# Altium integrated library Xilinx XC1700.IntLib: 30 symbols (part 1 of 2)
Pins are listed as number, name and electrical type; pins without a type are passive.

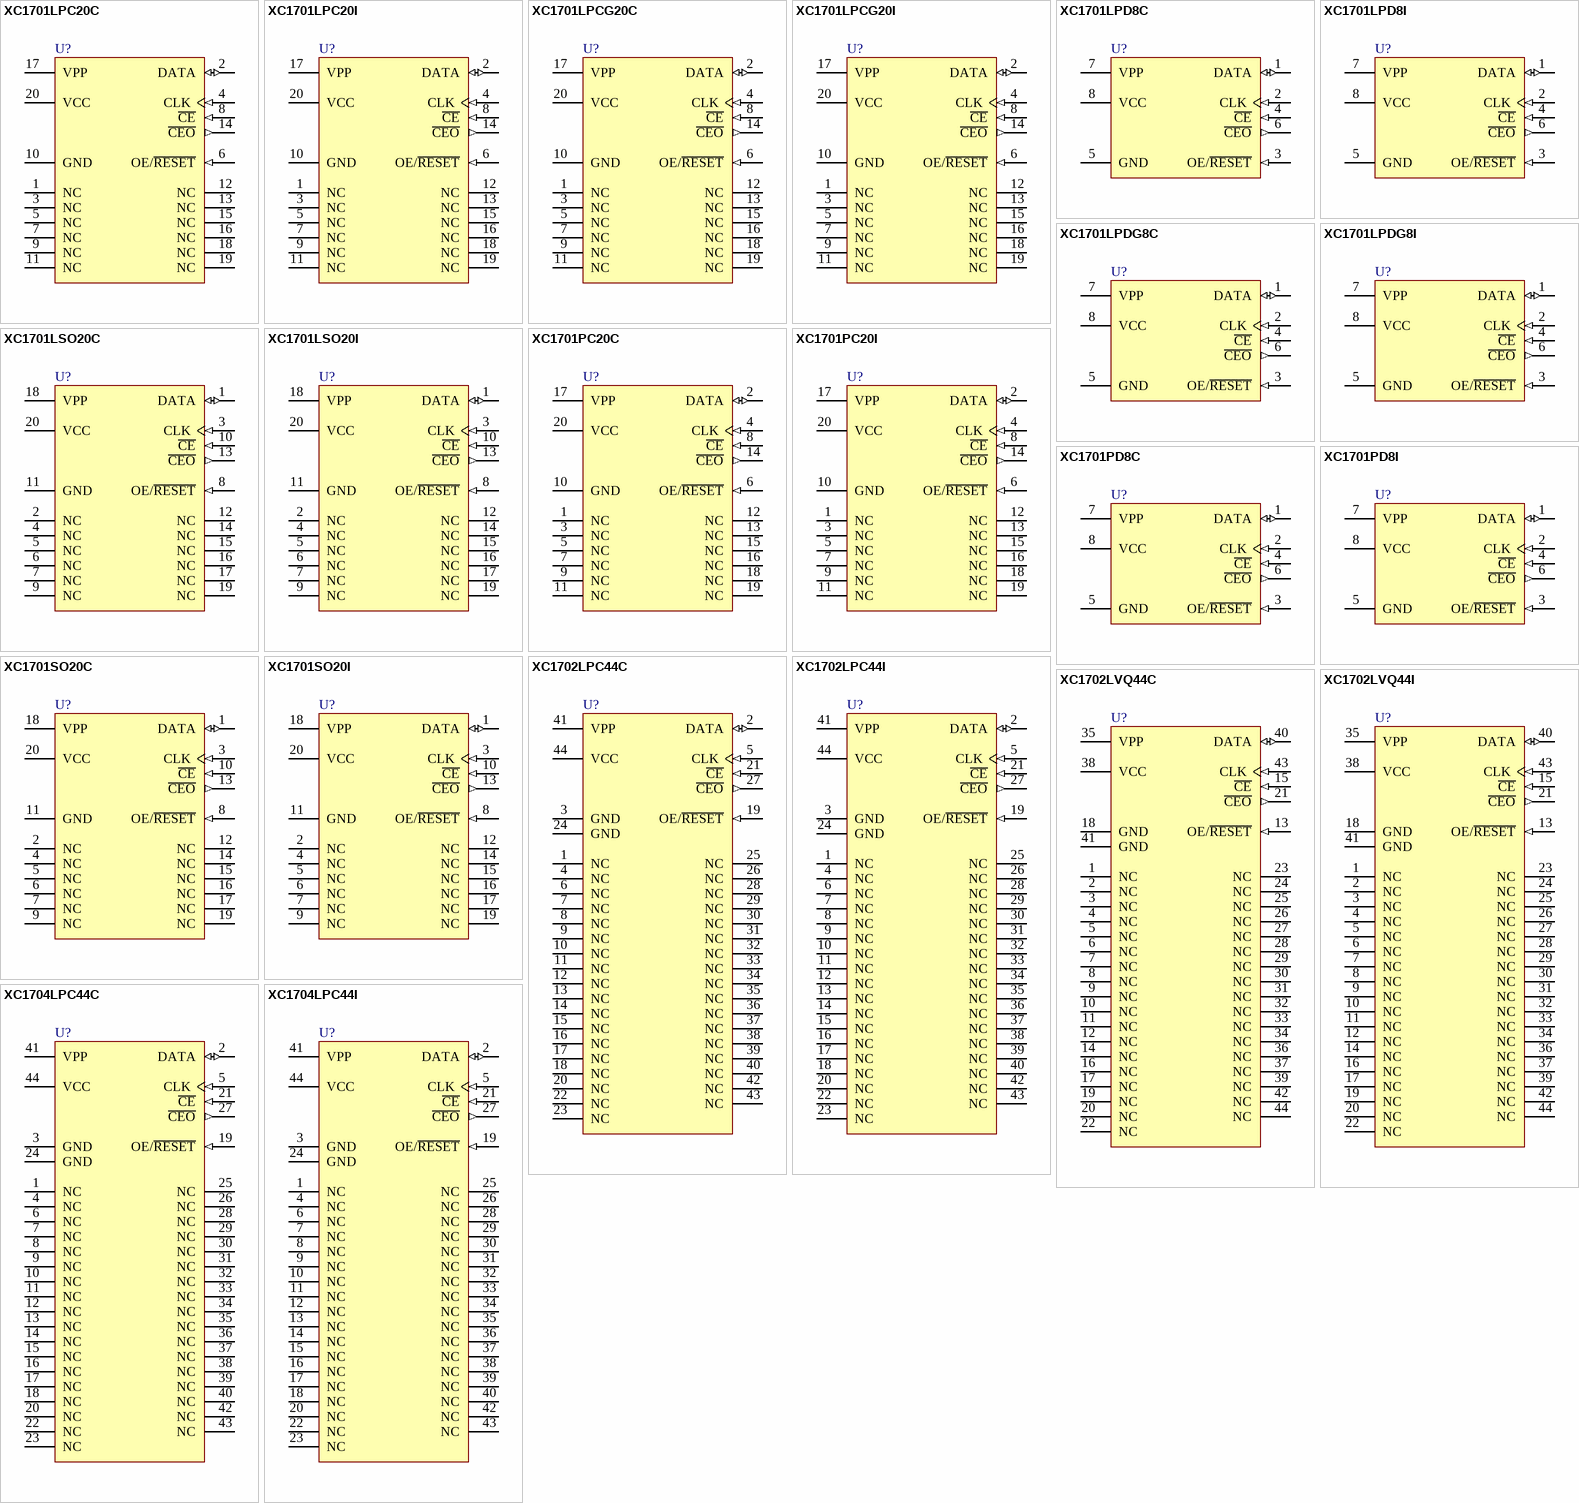
[diagram p0: symbols XC1701LPC20C to XC1704LPC44I]

## XC1701LPC20C
designator U?
XC1700L Series, One-Time Programmable Configuration 3.3V PROM, 20-Pin PLCC, 1-Megabit Density, Commercial Grade; Published: 17-Dec-2003; LatestRevisionDate: 16-Nov-2009; LatestRevisionNote: Updated to datasheet version 3.5, Jun-2008.; DatasheetVersion: ver3.5, Jun-2008; PackageVersion: ver1.2, Jun-2004; PackageReference: PC20; Publisher: Altium Limited; PackageDescription: 20-Pin Plastic Leaded Chip Carrier (PC20); Code_JEDEC: MS-047; Code_IPC: PLCC-20; ComponentLink1Description: XC1700E/EL/L Series Datasheet; ComponentLink1URL: http://www.xilinx.com/support/documentation/data_sheets/ds027.pdf; ComponentLink2Description: PC20 Package Drawing; ComponentLink2URL: http://www.xilinx.com/support/documentation/package_specs/pc20.pdf; ComponentLink3Description: Configuration PROM Documents; ComponentLink3URL: http://www.xilinx.com/support/documentation/configuration_proms.htm; ComponentLink4Description: Xilinx.com Home; ComponentLink4URL: http://www.xilinx.com
footprint PC20_N (Leaded Chip Carrier, 20-Leads, Body 9x9mm, Pitch 1.27mm, IPC Medium Density)
footprint PC20_L (Leaded Chip Carrier, 20-Leads, Body 9x9mm, Pitch 1.27mm, IPC High Density)
footprint PC20_M (Leaded Chip Carrier, 20-Leads, Body 9x9mm, Pitch 1.27mm, IPC Low Density)
pins: 1 NC "No Connection.", 2 DATA (io) "Data Output.", 3 NC "No Connection.", 4 CLK (in) "Clock input for internal address counter.", 5 NC "No Connection.", 6 OE/~{RESET} (in) "Output Enable/Reset.", 7 NC "No Connection.", 8 ~{CE} (in) "Chip Enable Input.", 9 NC "No Connection.", 10 GND (power) "Ground.", 11 NC "No Connection.", 12 NC "No Connection.", 13 NC "No Connection.", 14 ~{CEO} (out) "Chip Enable Output, connects to the CE input of the next PROM in the chain.", 15 NC "No Connection.", 16 NC "No Connection.", 17 VPP (power) "Programming Voltage.  Do not leave Vpp floating!", 18 NC "No Connection.", 19 NC "No Connection.", 20 VCC (power) "Positive Supply."

## XC1701LPC20I
designator U?
XC1700L Series, One-Time Programmable Configuration 3.3V PROM, 20-Pin PLCC, 1-Megabit Density, Industrial Grade; Published: 17-Dec-2003; LatestRevisionDate: 16-Nov-2009; LatestRevisionNote: Updated to datasheet version 3.5, Jun-2008.; DatasheetVersion: ver3.5, Jun-2008; PackageVersion: ver1.2, Jun-2004; PackageReference: PC20; Publisher: Altium Limited; PackageDescription: 20-Pin Plastic Leaded Chip Carrier (PC20); Code_JEDEC: MS-047; Code_IPC: PLCC-20; ComponentLink1Description: XC1700E/EL/L Series Datasheet; ComponentLink1URL: http://www.xilinx.com/support/documentation/data_sheets/ds027.pdf; ComponentLink2Description: PC20 Package Drawing; ComponentLink2URL: http://www.xilinx.com/support/documentation/package_specs/pc20.pdf; ComponentLink3Description: Configuration PROM Documents; ComponentLink3URL: http://www.xilinx.com/support/documentation/configuration_proms.htm; ComponentLink4Description: Xilinx.com Home; ComponentLink4URL: http://www.xilinx.com
footprint PC20_N (Leaded Chip Carrier, 20-Leads, Body 9x9mm, Pitch 1.27mm, IPC Medium Density)
footprint PC20_L (Leaded Chip Carrier, 20-Leads, Body 9x9mm, Pitch 1.27mm, IPC High Density)
footprint PC20_M (Leaded Chip Carrier, 20-Leads, Body 9x9mm, Pitch 1.27mm, IPC Low Density)
pins: 1 NC "No Connection.", 2 DATA (io) "Data Output.", 3 NC "No Connection.", 4 CLK (in) "Clock input for internal address counter.", 5 NC "No Connection.", 6 OE/~{RESET} (in) "Output Enable/Reset.", 7 NC "No Connection.", 8 ~{CE} (in) "Chip Enable Input.", 9 NC "No Connection.", 10 GND (power) "Ground.", 11 NC "No Connection.", 12 NC "No Connection.", 13 NC "No Connection.", 14 ~{CEO} (out) "Chip Enable Output, connects to the CE input of the next PROM in the chain.", 15 NC "No Connection.", 16 NC "No Connection.", 17 VPP (power) "Programming Voltage.  Do not leave Vpp floating!", 18 NC "No Connection.", 19 NC "No Connection.", 20 VCC (power) "Positive Supply."

## XC1701LPCG20C
designator U?
XC1700L Series, One-Time Programmable Configuration 3.3V PROM, 20-Pin PLCC, 1-Megabit Density, Commercial Grade; Published: 17-Nov-2009; DatasheetVersion: ver3.5, Jun-2008; PackageVersion: ver1.2, Jun-2004; PackageReference: PCG20; Publisher: Altium Limited; PackageDescription: 20-Pin Plastic Leaded Chip Carrier (PCG20) - Pb-Free; Supplier 1: Digi-Key; Supplier Part Number 1: XC1701LPCG20C-ND; Code_JEDEC: MS-047; Code_IPC: PLCC-20; ComponentLink1Description: XC1700E/EL/L Series Datasheet; ComponentLink1URL: http://www.xilinx.com/support/documentation/data_sheets/ds027.pdf; ComponentLink2Description: PCG20 Package Drawing; ComponentLink2URL: http://www.xilinx.com/support/documentation/package_specs/pc20.pdf; ComponentLink3Description: Configuration PROM Documents; ComponentLink3URL: http://www.xilinx.com/support/documentation/configuration_proms.htm; ComponentLink4Description: Xilinx.com Home; ComponentLink4URL: http://www.xilinx.com
footprint PCG20_N (Leaded Chip Carrier, 20-Leads, Body 9x9mm, Pitch 1.27mm, IPC Medium Density)
footprint PCG20_L (Leaded Chip Carrier, 20-Leads, Body 9x9mm, Pitch 1.27mm, IPC High Density)
footprint PCG20_M (Leaded Chip Carrier, 20-Leads, Body 9x9mm, Pitch 1.27mm, IPC Low Density)
pins: 1 NC "No Connection.", 2 DATA (io) "Data Output.", 3 NC "No Connection.", 4 CLK (in) "Clock input for internal address counter.", 5 NC "No Connection.", 6 OE/~{RESET} (in) "Output Enable/Reset.", 7 NC "No Connection.", 8 ~{CE} (in) "Chip Enable Input.", 9 NC "No Connection.", 10 GND (power) "Ground.", 11 NC "No Connection.", 12 NC "No Connection.", 13 NC "No Connection.", 14 ~{CEO} (out) "Chip Enable Output, connects to the CE input of the next PROM in the chain.", 15 NC "No Connection.", 16 NC "No Connection.", 17 VPP (power) "Programming Voltage.  Do not leave Vpp floating!", 18 NC "No Connection.", 19 NC "No Connection.", 20 VCC (power) "Positive Supply."

## XC1701LPCG20I
designator U?
XC1700L Series, One-Time Programmable Configuration 3.3V PROM, 20-Pin PLCC, 1-Megabit Density, Industrial Grade; Published: 17-Nov-2009; DatasheetVersion: ver3.5, Jun-2008; PackageVersion: ver1.2, Jun-2004; PackageReference: PCG20; Publisher: Altium Limited; PackageDescription: 20-Pin Plastic Leaded Chip Carrier (PCG20) - Pb-Free; Supplier 1: Digi-Key; Supplier Part Number 1: XC1701LPCG20I-ND; Code_JEDEC: MS-047; Code_IPC: PLCC-20; ComponentLink1Description: XC1700E/EL/L Series Datasheet; ComponentLink1URL: http://www.xilinx.com/support/documentation/data_sheets/ds027.pdf; ComponentLink2Description: PCG20 Package Drawing; ComponentLink2URL: http://www.xilinx.com/support/documentation/package_specs/pc20.pdf; ComponentLink3Description: Configuration PROM Documents; ComponentLink3URL: http://www.xilinx.com/support/documentation/configuration_proms.htm; ComponentLink4Description: Xilinx.com Home; ComponentLink4URL: http://www.xilinx.com
footprint PCG20_N (Leaded Chip Carrier, 20-Leads, Body 9x9mm, Pitch 1.27mm, IPC Medium Density)
footprint PCG20_L (Leaded Chip Carrier, 20-Leads, Body 9x9mm, Pitch 1.27mm, IPC High Density)
footprint PCG20_M (Leaded Chip Carrier, 20-Leads, Body 9x9mm, Pitch 1.27mm, IPC Low Density)
pins: 1 NC "No Connection.", 2 DATA (io) "Data Output.", 3 NC "No Connection.", 4 CLK (in) "Clock input for internal address counter.", 5 NC "No Connection.", 6 OE/~{RESET} (in) "Output Enable/Reset.", 7 NC "No Connection.", 8 ~{CE} (in) "Chip Enable Input.", 9 NC "No Connection.", 10 GND (power) "Ground.", 11 NC "No Connection.", 12 NC "No Connection.", 13 NC "No Connection.", 14 ~{CEO} (out) "Chip Enable Output, connects to the CE input of the next PROM in the chain.", 15 NC "No Connection.", 16 NC "No Connection.", 17 VPP (power) "Programming Voltage.  Do not leave Vpp floating!", 18 NC "No Connection.", 19 NC "No Connection.", 20 VCC (power) "Positive Supply."

## XC1701LPD8C
designator U?
XC1700L Series, One-Time Programmable Configuration 3.3V PROM, 8-Pin PDIP, 1-Megabit Density, Commercial Grade; Published: 17-Dec-2003; DatasheetVersion: ver3.5, Jun-2008; PackageVersion: rev1.1, Apr-2001; PackageReference: PD8; Publisher: Altium Limited; PackageDescription: 8-Pin Plastic DIP (PD8); Supplier 1: Digi-Key; Supplier Part Number 1: XC1701LPD8C-ND; Code_JEDEC: MS-001-BA; ComponentLink1Description: XC1700E/EL/L Series Datasheet; ComponentLink1URL: http://www.xilinx.com/support/documentation/data_sheets/ds027.pdf; ComponentLink2Description: PD8 Package Drawing; ComponentLink2URL: http://www.xilinx.com/support/documentation/package_specs/pd08.pdf; ComponentLink3Description: Configuration PROM Documents; ComponentLink3URL: http://www.xilinx.com/support/documentation/configuration_proms.htm; ComponentLink4Description: Xilinx.com Home; ComponentLink4URL: http://www.xilinx.com
footprint PD8 (DIP, 8-Leads, Row Spacing 7.62mm, Pitch 2.54mm, Body 9.36x6.5mm)
pins: 1 DATA (io) "Data Output.", 2 CLK (in) "Clock input for internal address counter.", 3 OE/~{RESET} (in) "Output Enable/Reset.", 4 ~{CE} (in) "Chip Enable Input.", 5 GND (power) "Ground.", 6 ~{CEO} (out) "Chip Enable Output, connects to the CE input of the next PROM in the chain.", 7 VPP (power) "Programming Voltage.  Do not leave Vpp floating!", 8 VCC (power) "Positive Supply."

## XC1701LPD8I
designator U?
XC1700L Series, One-Time Programmable Configuration 3.3V PROM, 8-Pin PDIP, 1-Megabit Density, Industrial Grade; Published: 17-Dec-2003; DatasheetVersion: ver3.5, Jun-2008; PackageVersion: rev1.1, Apr-2001; PackageReference: PD8; Publisher: Altium Limited; PackageDescription: 8-Pin Plastic DIP (PD8); Code_JEDEC: MS-001-BA; ComponentLink1Description: XC1700E/EL/L Series Datasheet; ComponentLink1URL: http://www.xilinx.com/support/documentation/data_sheets/ds027.pdf; ComponentLink2Description: PD8 Package Drawing; ComponentLink2URL: http://www.xilinx.com/support/documentation/package_specs/pd08.pdf; ComponentLink3Description: Configuration PROM Documents; ComponentLink3URL: http://www.xilinx.com/support/documentation/configuration_proms.htm; ComponentLink4Description: Xilinx.com Home; ComponentLink4URL: http://www.xilinx.com
footprint PD8 (DIP, 8-Leads, Row Spacing 7.62mm, Pitch 2.54mm, Body 9.36x6.5mm)
pins: 1 DATA (io) "Data Output.", 2 CLK (in) "Clock input for internal address counter.", 3 OE/~{RESET} (in) "Output Enable/Reset.", 4 ~{CE} (in) "Chip Enable Input.", 5 GND (power) "Ground.", 6 ~{CEO} (out) "Chip Enable Output, connects to the CE input of the next PROM in the chain.", 7 VPP (power) "Programming Voltage.  Do not leave Vpp floating!", 8 VCC (power) "Positive Supply."

## XC1701LPDG8C
designator U?
XC1700L Series, One-Time Programmable Configuration 3.3V PROM, 8-Pin PDIP, 1-Megabit Density, Commercial Grade; Published: 17-Nov-2009; DatasheetVersion: ver3.5, Jun-2008; PackageVersion: rev1.1, Apr-2001; PackageReference: PDG8; Publisher: Altium Limited; PackageDescription: 8-Pin Plastic DIP (PDG8), Pb-Free; Supplier 1: Digi-Key; Supplier Part Number 1: XC1701LPDG8C-ND; Code_JEDEC: MS-001-BA; ComponentLink1Description: XC1700E/EL/L Series Datasheet; ComponentLink1URL: http://www.xilinx.com/support/documentation/data_sheets/ds027.pdf; ComponentLink2Description: PDG8 Package Drawing; ComponentLink2URL: http://www.xilinx.com/support/documentation/package_specs/pd08.pdf; ComponentLink3Description: Configuration PROM Documents; ComponentLink3URL: http://www.xilinx.com/support/documentation/configuration_proms.htm; ComponentLink4Description: Xilinx.com Home; ComponentLink4URL: http://www.xilinx.com
footprint PDG8 (DIP, 8-Leads, Row Spacing 7.62mm, Pitch 2.54mm, Body 9.36x6.5mm)
pins: 1 DATA (io) "Data Output.", 2 CLK (in) "Clock input for internal address counter.", 3 OE/~{RESET} (in) "Output Enable/Reset.", 4 ~{CE} (in) "Chip Enable Input.", 5 GND (power) "Ground.", 6 ~{CEO} (out) "Chip Enable Output, connects to the CE input of the next PROM in the chain.", 7 VPP (power) "Programming Voltage.  Do not leave Vpp floating!", 8 VCC (power) "Positive Supply."

## XC1701LPDG8I
designator U?
XC1700L Series, One-Time Programmable Configuration 3.3V PROM, 8-Pin PDIP, 1-Megabit Density, Industrial Grade; Published: 17-Nov-2009; DatasheetVersion: ver3.5, Jun-2008; PackageVersion: rev1.1, Apr-2001; PackageReference: PDG8; Publisher: Altium Limited; PackageDescription: 8-Pin Plastic DIP (PDG8), Pb-Free; Supplier 1: Digi-Key; Supplier Part Number 1: XC1701LPDG8I-ND; Code_JEDEC: MS-001-BA; ComponentLink1Description: XC1700E/EL/L Series Datasheet; ComponentLink1URL: http://www.xilinx.com/support/documentation/data_sheets/ds027.pdf; ComponentLink2Description: PDG8 Package Drawing; ComponentLink2URL: http://www.xilinx.com/support/documentation/package_specs/pd08.pdf; ComponentLink3Description: Configuration PROM Documents; ComponentLink3URL: http://www.xilinx.com/support/documentation/configuration_proms.htm; ComponentLink4Description: Xilinx.com Home; ComponentLink4URL: http://www.xilinx.com
footprint PDG8 (DIP, 8-Leads, Row Spacing 7.62mm, Pitch 2.54mm, Body 9.36x6.5mm)
pins: 1 DATA (io) "Data Output.", 2 CLK (in) "Clock input for internal address counter.", 3 OE/~{RESET} (in) "Output Enable/Reset.", 4 ~{CE} (in) "Chip Enable Input.", 5 GND (power) "Ground.", 6 ~{CEO} (out) "Chip Enable Output, connects to the CE input of the next PROM in the chain.", 7 VPP (power) "Programming Voltage.  Do not leave Vpp floating!", 8 VCC (power) "Positive Supply."

## XC1701LSO20C
designator U?
XC1700L Series, One-Time Programmable Configuration 3.3V PROM, 20-Pin SOIC, 1-Megabit Density, Commercial Grade; Published: 17-Dec-2003; LatestRevisionDate: 16-Nov-2009; LatestRevisionNote: Updated to datasheet version 3.5, Jun-2008.; DatasheetVersion: ver3.5, Jun-2008; PackageVersion: ver1.0, Jun-2000; PackageReference: SO20; Publisher: Altium Limited; PackageDescription: 20-Pin Small Outline Package (SO20); Code_JEDEC: MS-013-AC; ComponentLink1Description: XC1700E/EL/L Series Datasheet; ComponentLink1URL: http://www.xilinx.com/support/documentation/data_sheets/ds027.pdf; ComponentLink2Description: SO20 Package Drawing; ComponentLink2URL: http://www.xilinx.com/support/documentation/package_specs/so20.pdf; ComponentLink3Description: Configuration PROM Documents; ComponentLink3URL: http://www.xilinx.com/support/documentation/configuration_proms.htm; ComponentLink4Description: Xilinx.com Home; ComponentLink4URL: http://www.xilinx.com
footprint SO20_N (SOIC, 20-Leads, Body 12.8x7.5mm, Pitch 1.27mm, IPC Medium Density)
footprint SO20_L (SOIC, 20-Leads, Body 12.8x7.5mm, Pitch 1.27mm, IPC High Density)
footprint SO20_M (SOIC, 20-Leads, Body 12.8x7.5mm, Pitch 1.27mm, IPC Low Density)
pins: 1 DATA (io) "Data Output.", 2 NC "No Connection.", 3 CLK (in) "Clock input for internal address counter.", 4 NC "No Connection.", 5 NC "No Connection.", 6 NC "No Connection.", 7 NC "No Connection.", 8 OE/~{RESET} (in) "Output Enable/Reset.", 9 NC "No Connection.", 10 ~{CE} (in) "Chip Enable Input.", 11 GND (power) "Ground.", 12 NC "No Connection.", 13 ~{CEO} (out) "Chip Enable Output, connects to the CE input of the next PROM in the chain.", 14 NC "No Connection.", 15 NC "No Connection.", 16 NC "No Connection.", 17 NC "No Connection.", 18 VPP (power) "Programming Voltage.  Do not leave Vpp floating!", 19 NC "No Connection.", 20 VCC (power) "Positive Supply."

## XC1701LSO20I
designator U?
XC1700L Series, One-Time Programmable Configuration 3.3V PROM, 20-Pin SOIC, 1-Megabit Density, Industrial Grade; Published: 17-Dec-2003; LatestRevisionDate: 16-Nov-2009; LatestRevisionNote: Updated to datasheet version 3.5, Jun-2008.; DatasheetVersion: ver3.5, Jun-2008; PackageVersion: ver1.0, Jun-2000; PackageReference: SO20; Publisher: Altium Limited; PackageDescription: 20-Pin Small Outline Package (SO20); Code_JEDEC: MS-013-AC; ComponentLink1Description: XC1700E/EL/L Series Datasheet; ComponentLink1URL: http://www.xilinx.com/support/documentation/data_sheets/ds027.pdf; ComponentLink2Description: SO20 Package Drawing; ComponentLink2URL: http://www.xilinx.com/support/documentation/package_specs/so20.pdf; ComponentLink3Description: Configuration PROM Documents; ComponentLink3URL: http://www.xilinx.com/support/documentation/configuration_proms.htm; ComponentLink4Description: Xilinx.com Home; ComponentLink4URL: http://www.xilinx.com
footprint SO20_N (SOIC, 20-Leads, Body 12.8x7.5mm, Pitch 1.27mm, IPC Medium Density)
footprint SO20_L (SOIC, 20-Leads, Body 12.8x7.5mm, Pitch 1.27mm, IPC High Density)
footprint SO20_M (SOIC, 20-Leads, Body 12.8x7.5mm, Pitch 1.27mm, IPC Low Density)
pins: 1 DATA (io) "Data Output.", 2 NC "No Connection.", 3 CLK (in) "Clock input for internal address counter.", 4 NC "No Connection.", 5 NC "No Connection.", 6 NC "No Connection.", 7 NC "No Connection.", 8 OE/~{RESET} (in) "Output Enable/Reset.", 9 NC "No Connection.", 10 ~{CE} (in) "Chip Enable Input.", 11 GND (power) "Ground.", 12 NC "No Connection.", 13 ~{CEO} (out) "Chip Enable Output, connects to the CE input of the next PROM in the chain.", 14 NC "No Connection.", 15 NC "No Connection.", 16 NC "No Connection.", 17 NC "No Connection.", 18 VPP (power) "Programming Voltage.  Do not leave Vpp floating!", 19 NC "No Connection.", 20 VCC (power) "Positive Supply."

## XC1701PC20C
designator U?
XC1700L Series, One-Time Programmable Configuration 3.3V PROM, 20-Pin PLCC, 1-Megabit Density, Commercial Grade; Published: 17-Dec-2003; LatestRevisionDate: 01-Mar-2010; LatestRevisionNote: Added Product Discontinuance Notice Link.; DatasheetVersion: ver3.5, Jun-2008; PackageVersion: ver1.2, Jun-2004; PackageReference: PC20; Publisher: Altium Limited; PackageDescription: 20-Pin Plastic Leaded Chip Carrier (PC20); Supplier 1: Digi-Key; Supplier Part Number 1: XC1701PC20C-ND; Code_JEDEC: MS-047; Code_IPC: PLCC-20; ComponentLink1Description: XC1700E/EL/L Series Datasheet; ComponentLink1URL: http://www.xilinx.com/support/documentation/data_sheets/ds027.pdf; ComponentLink2Description: Discontinuation Notice; ComponentLink2URL: http://www.xilinx.com/support/documentation/customer_notices/xcn09001.pdf; ComponentLink3Description: PC20 Package Drawing; ComponentLink3URL: http://www.xilinx.com/support/documentation/package_specs/pc20.pdf; ComponentLink4Description: Configuration PROM Documents; ComponentLink4URL: http://www.xilinx.com/support/documentation/configuration_proms.htm; ComponentLink5Description: Xilinx.com Home; ComponentLink5URL: http://www.xilinx.com
footprint PC20_N (Leaded Chip Carrier, 20-Leads, Body 9x9mm, Pitch 1.27mm, IPC Medium Density)
footprint PC20_L (Leaded Chip Carrier, 20-Leads, Body 9x9mm, Pitch 1.27mm, IPC High Density)
footprint PC20_M (Leaded Chip Carrier, 20-Leads, Body 9x9mm, Pitch 1.27mm, IPC Low Density)
pins: 1 NC "No Connection.", 2 DATA (io) "Data Output.", 3 NC "No Connection.", 4 CLK (in) "Clock input for internal address counter.", 5 NC "No Connection.", 6 OE/~{RESET} (in) "Output Enable/Reset.", 7 NC "No Connection.", 8 ~{CE} (in) "Chip Enable Input.", 9 NC "No Connection.", 10 GND (power) "Ground.", 11 NC "No Connection.", 12 NC "No Connection.", 13 NC "No Connection.", 14 ~{CEO} (out) "Chip Enable Output, connects to the CE input of the next PROM in the chain.", 15 NC "No Connection.", 16 NC "No Connection.", 17 VPP (power) "Programming Voltage.  Do not leave Vpp floating!", 18 NC "No Connection.", 19 NC "No Connection.", 20 VCC (power) "Positive Supply."

## XC1701PC20I
designator U?
XC1700L Series, One-Time Programmable Configuration 3.3V PROM, 20-Pin PLCC, 1-Megabit Density, Industrial Grade; Published: 17-Dec-2003; LatestRevisionDate: 01-Mar-2010; LatestRevisionNote: Added Product Discontinuance Notice Link.; DatasheetVersion: ver3.5, Jun-2008; PackageVersion: ver1.2, Jun-2004; PackageReference: PC20; Publisher: Altium Limited; PackageDescription: 20-Pin Plastic Leaded Chip Carrier (PC20); Supplier 1: Digi-Key; Supplier Part Number 1: XC1701PC20I-ND; Code_JEDEC: MS-047; Code_IPC: PLCC-20; ComponentLink1Description: XC1700E/EL/L Series Datasheet; ComponentLink1URL: http://www.xilinx.com/support/documentation/data_sheets/ds027.pdf; ComponentLink2Description: Discontinuation Notice; ComponentLink2URL: http://www.xilinx.com/support/documentation/customer_notices/xcn09001.pdf; ComponentLink3Description: PC20 Package Drawing; ComponentLink3URL: http://www.xilinx.com/support/documentation/package_specs/pc20.pdf; ComponentLink4Description: Configuration PROM Documents; ComponentLink4URL: http://www.xilinx.com/support/documentation/configuration_proms.htm; ComponentLink5Description: Xilinx.com Home; ComponentLink5URL: http://www.xilinx.com
footprint PC20_N (Leaded Chip Carrier, 20-Leads, Body 9x9mm, Pitch 1.27mm, IPC Medium Density)
footprint PC20_L (Leaded Chip Carrier, 20-Leads, Body 9x9mm, Pitch 1.27mm, IPC High Density)
footprint PC20_M (Leaded Chip Carrier, 20-Leads, Body 9x9mm, Pitch 1.27mm, IPC Low Density)
pins: 1 NC "No Connection.", 2 DATA (io) "Data Output.", 3 NC "No Connection.", 4 CLK (in) "Clock input for internal address counter.", 5 NC "No Connection.", 6 OE/~{RESET} (in) "Output Enable/Reset.", 7 NC "No Connection.", 8 ~{CE} (in) "Chip Enable Input.", 9 NC "No Connection.", 10 GND (power) "Ground.", 11 NC "No Connection.", 12 NC "No Connection.", 13 NC "No Connection.", 14 ~{CEO} (out) "Chip Enable Output, connects to the CE input of the next PROM in the chain.", 15 NC "No Connection.", 16 NC "No Connection.", 17 VPP (power) "Programming Voltage.  Do not leave Vpp floating!", 18 NC "No Connection.", 19 NC "No Connection.", 20 VCC (power) "Positive Supply."

## XC1701PD8C
designator U?
XC1700L Series, One-Time Programmable Configuration 3.3V PROM, 8-Pin PDIP, 1-Megabit Density, Commercial Grade; Published: 17-Dec-2003; LatestRevisionDate: 01-Mar-2010; LatestRevisionNote: Added Product Discontinuance Notice Link.; DatasheetVersion: ver3.5, Jun-2008; PackageVersion: rev1.1, Apr-2001; PackageReference: PD8; Publisher: Altium Limited; PackageDescription: 8-Pin Plastic DIP (PD8); Supplier 1: Digi-Key; Supplier Part Number 1: XC1701PD8C-ND; Code_JEDEC: MS-001-BA; ComponentLink1Description: XC1700E/EL/L Series Datasheet; ComponentLink1URL: http://www.xilinx.com/support/documentation/data_sheets/ds027.pdf; ComponentLink2Description: Discontinuation Notice; ComponentLink2URL: http://www.xilinx.com/support/documentation/customer_notices/xcn09001.pdf; ComponentLink3Description: PD8 Package Drawing; ComponentLink3URL: http://www.xilinx.com/support/documentation/package_specs/pd08.pdf; ComponentLink4Description: Configuration PROM Documents; ComponentLink4URL: http://www.xilinx.com/support/documentation/configuration_proms.htm; ComponentLink5Description: Xilinx.com Home; ComponentLink5URL: http://www.xilinx.com
footprint PD8 (DIP, 8-Leads, Row Spacing 7.62mm, Pitch 2.54mm, Body 9.36x6.5mm)
pins: 1 DATA (io) "Data Output.", 2 CLK (in) "Clock input for internal address counter.", 3 OE/~{RESET} (in) "Output Enable/Reset.", 4 ~{CE} (in) "Chip Enable Input.", 5 GND (power) "Ground.", 6 ~{CEO} (out) "Chip Enable Output, connects to the CE input of the next PROM in the chain.", 7 VPP (power) "Programming Voltage.  Do not leave Vpp floating!", 8 VCC (power) "Positive Supply."

## XC1701PD8I
designator U?
XC1700L Series, One-Time Programmable Configuration 3.3V PROM, 8-Pin PDIP, 1-Megabit Density, Industrial Grade; Published: 17-Dec-2003; LatestRevisionDate: 01-Mar-2010; LatestRevisionNote: Added Product Discontinuance Notice Link.; DatasheetVersion: ver3.5, Jun-2008; PackageVersion: rev1.1, Apr-2001; PackageReference: PD8; Publisher: Altium Limited; PackageDescription: 8-Pin Plastic DIP (PD8); Supplier 1: Digi-Key; Supplier Part Number 1: XC1701PD8I-ND; Code_JEDEC: MS-001-BA; ComponentLink1Description: XC1700E/EL/L Series Datasheet; ComponentLink1URL: http://www.xilinx.com/support/documentation/data_sheets/ds027.pdf; ComponentLink2Description: Discontinuation Notice; ComponentLink2URL: http://www.xilinx.com/support/documentation/customer_notices/xcn09001.pdf; ComponentLink3Description: PD8 Package Drawing; ComponentLink3URL: http://www.xilinx.com/support/documentation/package_specs/pd08.pdf; ComponentLink4Description: Configuration PROM Documents; ComponentLink4URL: http://www.xilinx.com/support/documentation/configuration_proms.htm; ComponentLink5Description: Xilinx.com Home; ComponentLink5URL: http://www.xilinx.com
footprint PD8 (DIP, 8-Leads, Row Spacing 7.62mm, Pitch 2.54mm, Body 9.36x6.5mm)
pins: 1 DATA (io) "Data Output.", 2 CLK (in) "Clock input for internal address counter.", 3 OE/~{RESET} (in) "Output Enable/Reset.", 4 ~{CE} (in) "Chip Enable Input.", 5 GND (power) "Ground.", 6 ~{CEO} (out) "Chip Enable Output, connects to the CE input of the next PROM in the chain.", 7 VPP (power) "Programming Voltage.  Do not leave Vpp floating!", 8 VCC (power) "Positive Supply."

## XC1701SO20C
designator U?
XC1700L Series, One-Time Programmable Configuration 3.3V PROM, 20-Pin SOIC, 1-Megabit Density, Commercial Grade; Published: 17-Dec-2003; LatestRevisionDate: 01-Mar-2010; LatestRevisionNote: Added Product Discontinuance Notice Link.; DatasheetVersion: ver3.5, Jun-2008; PackageVersion: ver1.0, Jun-2000; PackageReference: SO20; Publisher: Altium Limited; PackageDescription: 20-Pin Small Outline Package (SO20); Supplier 1: Digi-Key; Supplier Part Number 1: XC1701SO20C-ND; Code_JEDEC: MS-013-AC; ComponentLink1Description: XC1700E/EL/L Series Datasheet; ComponentLink1URL: http://www.xilinx.com/support/documentation/data_sheets/ds027.pdf; ComponentLink2Description: Discontinuation Notice; ComponentLink2URL: http://www.xilinx.com/support/documentation/customer_notices/xcn09001.pdf; ComponentLink3Description: SO20 Package Drawing; ComponentLink3URL: http://www.xilinx.com/support/documentation/package_specs/so20.pdf; ComponentLink4Description: Configuration PROM Documents; ComponentLink4URL: http://www.xilinx.com/support/documentation/configuration_proms.htm; ComponentLink5Description: Xilinx.com Home; ComponentLink5URL: http://www.xilinx.com
footprint SO20_N (SOIC, 20-Leads, Body 12.8x7.5mm, Pitch 1.27mm, IPC Medium Density)
footprint SO20_L (SOIC, 20-Leads, Body 12.8x7.5mm, Pitch 1.27mm, IPC High Density)
footprint SO20_M (SOIC, 20-Leads, Body 12.8x7.5mm, Pitch 1.27mm, IPC Low Density)
pins: 1 DATA (io) "Data Output.", 2 NC "No Connection.", 3 CLK (in) "Clock input for internal address counter.", 4 NC "No Connection.", 5 NC "No Connection.", 6 NC "No Connection.", 7 NC "No Connection.", 8 OE/~{RESET} (in) "Output Enable/Reset.", 9 NC "No Connection.", 10 ~{CE} (in) "Chip Enable Input.", 11 GND (power) "Ground.", 12 NC "No Connection.", 13 ~{CEO} (out) "Chip Enable Output, connects to the CE input of the next PROM in the chain.", 14 NC "No Connection.", 15 NC "No Connection.", 16 NC "No Connection.", 17 NC "No Connection.", 18 VPP (power) "Programming Voltage.  Do not leave Vpp floating!", 19 NC "No Connection.", 20 VCC (power) "Positive Supply."

## XC1701SO20I
designator U?
XC1700L Series, One-Time Programmable Configuration 3.3V PROM, 20-Pin SOIC, 1-Megabit Density, Industrial Grade; Published: 17-Dec-2003; LatestRevisionDate: 01-Mar-2010; LatestRevisionNote: Added Product Discontinuance Notice Link.; DatasheetVersion: ver3.5, Jun-2008; PackageVersion: ver1.0, Jun-2000; PackageReference: SO20; Publisher: Altium Limited; PackageDescription: 20-Pin Small Outline Package (SO20); Supplier 1: Digi-Key; Supplier Part Number 1: XC1701SO20I-ND; Code_JEDEC: MS-013-AC; ComponentLink1Description: XC1700E/EL/L Series Datasheet; ComponentLink1URL: http://www.xilinx.com/support/documentation/data_sheets/ds027.pdf; ComponentLink2Description: Discontinuation Notice; ComponentLink2URL: http://www.xilinx.com/support/documentation/customer_notices/xcn09001.pdf; ComponentLink3Description: SO20 Package Drawing; ComponentLink3URL: http://www.xilinx.com/support/documentation/package_specs/so20.pdf; ComponentLink4Description: Configuration PROM Documents; ComponentLink4URL: http://www.xilinx.com/support/documentation/configuration_proms.htm; ComponentLink5Description: Xilinx.com Home; ComponentLink5URL: http://www.xilinx.com
footprint SO20_N (SOIC, 20-Leads, Body 12.8x7.5mm, Pitch 1.27mm, IPC Medium Density)
footprint SO20_L (SOIC, 20-Leads, Body 12.8x7.5mm, Pitch 1.27mm, IPC High Density)
footprint SO20_M (SOIC, 20-Leads, Body 12.8x7.5mm, Pitch 1.27mm, IPC Low Density)
pins: 1 DATA (io) "Data Output.", 2 NC "No Connection.", 3 CLK (in) "Clock input for internal address counter.", 4 NC "No Connection.", 5 NC "No Connection.", 6 NC "No Connection.", 7 NC "No Connection.", 8 OE/~{RESET} (in) "Output Enable/Reset.", 9 NC "No Connection.", 10 ~{CE} (in) "Chip Enable Input.", 11 GND (power) "Ground.", 12 NC "No Connection.", 13 ~{CEO} (out) "Chip Enable Output, connects to the CE input of the next PROM in the chain.", 14 NC "No Connection.", 15 NC "No Connection.", 16 NC "No Connection.", 17 NC "No Connection.", 18 VPP (power) "Programming Voltage.  Do not leave Vpp floating!", 19 NC "No Connection.", 20 VCC (power) "Positive Supply."

## XC1702LPC44C
designator U?
XC1700L Series, One-Time Programmable Configuration 3.3V PROM, 44-Pin PLCC, 2-Megabit Density, Commercial Grade; Published: 17-Dec-2003; LatestRevisionDate: 16-Nov-2009; LatestRevisionNote: Updated to datasheet version 3.5, Jun-2008.; DatasheetVersion: ver3.5, Jun-2008; PackageVersion: ver1.2, Jun-2004; PackageReference: PC44; Publisher: Altium Limited; PackageDescription: 44-Pin Plastic Leaded Chip Carrier (PC44); Code_JEDEC: MS-047; Code_IPC: PLCC-44; ComponentLink1Description: XC1700E/EL/L Series Datasheet; ComponentLink1URL: http://www.xilinx.com/support/documentation/data_sheets/ds027.pdf; ComponentLink2Description: PC44 Package Drawing; ComponentLink2URL: http://www.xilinx.com/support/documentation/package_specs/pc44.pdf; ComponentLink3Description: Configuration PROM Documents; ComponentLink3URL: http://www.xilinx.com/support/documentation/configuration_proms.htm; ComponentLink4Description: Xilinx.com Home; ComponentLink4URL: http://www.xilinx.com
footprint PC44_N (Leaded Chip Carrier, 44-Leads, Body 16.6x16.6mm, Pitch 1.27mm, IPC Medium Density)
footprint PC44_L (Leaded Chip Carrier, 44-Leads, Body 16.6x16.6mm, Pitch 1.27mm, IPC High Density)
footprint PC44_M (Leaded Chip Carrier, 44-Leads, Body 16.6x16.6mm, Pitch 1.27mm, IPC Low Density)
pins: 1 NC "No Connection.", 2 DATA (io) "Data Output.", 3 GND (power) "Ground.", 4 NC "No Connection.", 5 CLK (in) "Clock input for internal address counter.", 6 NC "No Connection.", 7 NC "No Connection.", 8 NC "No Connection.", 9 NC "No Connection.", 10 NC "No Connection.", 11 NC "No Connection.", 12 NC "No Connection.", 13 NC "No Connection.", 14 NC "No Connection.", 15 NC "No Connection.", 16 NC "No Connection.", 17 NC "No Connection.", 18 NC "No Connection.", 19 OE/~{RESET} (in) "Output Enable/Reset.", 20 NC "No Connection.", 21 ~{CE} (in) "Chip Enable Input.", 22 NC "No Connection.", 23 NC "No Connection.", 24 GND (power) "Ground.", 25 NC "No Connection.", 26 NC "No Connection.", 27 ~{CEO} (out) "Chip Enable Output, connects to the CE input of the next PROM in the chain.", 28 NC "No Connection.", 29 NC "No Connection.", 30 NC "No Connection.", 31 NC "No Connection.", 32 NC "No Connection.", 33 NC "No Connection.", 34 NC "No Connection.", 35 NC "No Connection.", 36 NC "No Connection.", 37 NC "No Connection.", 38 NC "No Connection.", 39 NC "No Connection.", 40 NC "No Connection.", 41 VPP (power) "Programming Voltage.  Do not leave Vpp floating!", 42 NC "No Connection.", 43 NC "No Connection.", 44 VCC (power) "Positive Supply."

## XC1702LPC44I
designator U?
XC1700L Series, One-Time Programmable Configuration 3.3V PROM, 44-Pin PLCC, 2-Megabit Density, Industrial Grade; Published: 17-Dec-2003; LatestRevisionDate: 16-Nov-2009; LatestRevisionNote: Updated to datasheet version 3.5, Jun-2008.; DatasheetVersion: ver3.5, Jun-2008; PackageVersion: ver1.2, Jun-2004; PackageReference: PC44; Publisher: Altium Limited; PackageDescription: 44-Pin Plastic Leaded Chip Carrier (PC44); Code_JEDEC: MS-047; Code_IPC: PLCC-44; ComponentLink1Description: XC1700E/EL/L Series Datasheet; ComponentLink1URL: http://www.xilinx.com/support/documentation/data_sheets/ds027.pdf; ComponentLink2Description: PC44 Package Drawing; ComponentLink2URL: http://www.xilinx.com/support/documentation/package_specs/pc44.pdf; ComponentLink3Description: Configuration PROM Documents; ComponentLink3URL: http://www.xilinx.com/support/documentation/configuration_proms.htm; ComponentLink4Description: Xilinx.com Home; ComponentLink4URL: http://www.xilinx.com
footprint PC44_N (Leaded Chip Carrier, 44-Leads, Body 16.6x16.6mm, Pitch 1.27mm, IPC Medium Density)
footprint PC44_L (Leaded Chip Carrier, 44-Leads, Body 16.6x16.6mm, Pitch 1.27mm, IPC High Density)
footprint PC44_M (Leaded Chip Carrier, 44-Leads, Body 16.6x16.6mm, Pitch 1.27mm, IPC Low Density)
pins: 1 NC "No Connection.", 2 DATA (io) "Data Output.", 3 GND (power) "Ground.", 4 NC "No Connection.", 5 CLK (in) "Clock input for internal address counter.", 6 NC "No Connection.", 7 NC "No Connection.", 8 NC "No Connection.", 9 NC "No Connection.", 10 NC "No Connection.", 11 NC "No Connection.", 12 NC "No Connection.", 13 NC "No Connection.", 14 NC "No Connection.", 15 NC "No Connection.", 16 NC "No Connection.", 17 NC "No Connection.", 18 NC "No Connection.", 19 OE/~{RESET} (in) "Output Enable/Reset.", 20 NC "No Connection.", 21 ~{CE} (in) "Chip Enable Input.", 22 NC "No Connection.", 23 NC "No Connection.", 24 GND (power) "Ground.", 25 NC "No Connection.", 26 NC "No Connection.", 27 ~{CEO} (out) "Chip Enable Output, connects to the CE input of the next PROM in the chain.", 28 NC "No Connection.", 29 NC "No Connection.", 30 NC "No Connection.", 31 NC "No Connection.", 32 NC "No Connection.", 33 NC "No Connection.", 34 NC "No Connection.", 35 NC "No Connection.", 36 NC "No Connection.", 37 NC "No Connection.", 38 NC "No Connection.", 39 NC "No Connection.", 40 NC "No Connection.", 41 VPP (power) "Programming Voltage.  Do not leave Vpp floating!", 42 NC "No Connection.", 43 NC "No Connection.", 44 VCC (power) "Positive Supply."

## XC1702LVQ44C
designator U?
XC1700L Series, One-Time Programmable Configuration 3.3V PROM, 44-Pin VQFP, 2-Megabit Density, Commercial Grade; Published: 17-Dec-2003; LatestRevisionDate: 16-Nov-2009; LatestRevisionNote: Updated to datasheet version 3.5, Jun-2008.; DatasheetVersion: ver3.5, Jun-2008; PackageVersion: ver1.2, Jun-2004; PackageReference: VQ44; Publisher: Altium Limited; PackageDescription: 44-Pin Very Thin Quad Flat Pack (VQ44); Code_JEDEC: MS-026-ACB; ComponentLink1Description: XC1700E/EL/L Series Datasheet; ComponentLink1URL: http://www.xilinx.com/support/documentation/data_sheets/ds027.pdf; ComponentLink2Description: VQ44 Package Drawing; ComponentLink2URL: http://www.xilinx.com/support/documentation/package_specs/vq44.pdf; ComponentLink3Description: Configuration PROM Documents; ComponentLink3URL: http://www.xilinx.com/support/documentation/configuration_proms.htm; ComponentLink4Description: Xilinx.com Home; ComponentLink4URL: http://www.xilinx.com
footprint VQ44_N (Thin QFP, 44-Leads, Body 10x10mm, Pitch 0.8mm, IPC Medium Density)
footprint VQ44_L (Thin QFP, 44-Leads, Body 10x10mm, Pitch 0.8mm, IPC High Density)
footprint VQ44_M (Thin QFP, 44-Leads, Body 10x10mm, Pitch 0.8mm, IPC Low Density)
pins: 1 NC "No Connection.", 2 NC "No Connection.", 3 NC "No Connection.", 4 NC "No Connection.", 5 NC "No Connection.", 6 NC "No Connection.", 7 NC "No Connection.", 8 NC "No Connection.", 9 NC "No Connection.", 10 NC "No Connection.", 11 NC "No Connection.", 12 NC "No Connection.", 13 OE/~{RESET} (in) "Output Enable/Reset.", 14 NC "No Connection.", 15 ~{CE} (in) "Chip Enable Input.", 16 NC "No Connection.", 17 NC "No Connection.", 18 GND (power) "Ground.", 19 NC "No Connection.", 20 NC "No Connection.", 21 ~{CEO} (out) "Chip Enable Output, connects to the CE input of the next PROM in the chain.", 22 NC "No Connection.", 23 NC "No Connection.", 24 NC "No Connection.", 25 NC "No Connection.", 26 NC "No Connection.", 27 NC "No Connection.", 28 NC "No Connection.", 29 NC "No Connection.", 30 NC "No Connection.", 31 NC "No Connection.", 32 NC "No Connection.", 33 NC "No Connection.", 34 NC "No Connection.", 35 VPP (power) "Programming Voltage.  Do not leave Vpp floating!", 36 NC "No Connection.", 37 NC "No Connection.", 38 VCC (power) "Positive Supply.", 39 NC "No Connection.", 40 DATA (io) "Data Output.", 41 GND (power) "Ground.", 42 NC "No Connection.", 43 CLK (in) "Clock input for internal address counter.", 44 NC "No Connection."

## XC1702LVQ44I
designator U?
XC1700L Series, One-Time Programmable Configuration 3.3V PROM, 44-Pin VQFP, 2-Megabit Density, Industrial Grade; Published: 17-Dec-2003; LatestRevisionDate: 16-Nov-2009; LatestRevisionNote: Updated to datasheet version 3.5, Jun-2008.; DatasheetVersion: ver3.5, Jun-2008; PackageVersion: ver1.2, Jun-2004; PackageReference: VQ44; Publisher: Altium Limited; PackageDescription: 44-Pin Very Thin Quad Flat Pack (VQ44); Code_JEDEC: MS-026-ACB; ComponentLink1Description: XC1700E/EL/L Series Datasheet; ComponentLink1URL: http://www.xilinx.com/support/documentation/data_sheets/ds027.pdf; ComponentLink2Description: VQ44 Package Drawing; ComponentLink2URL: http://www.xilinx.com/support/documentation/package_specs/vq44.pdf; ComponentLink3Description: Configuration PROM Documents; ComponentLink3URL: http://www.xilinx.com/support/documentation/configuration_proms.htm; ComponentLink4Description: Xilinx.com Home; ComponentLink4URL: http://www.xilinx.com
footprint VQ44_N (Thin QFP, 44-Leads, Body 10x10mm, Pitch 0.8mm, IPC Medium Density)
footprint VQ44_L (Thin QFP, 44-Leads, Body 10x10mm, Pitch 0.8mm, IPC High Density)
footprint VQ44_M (Thin QFP, 44-Leads, Body 10x10mm, Pitch 0.8mm, IPC Low Density)
pins: 1 NC "No Connection.", 2 NC "No Connection.", 3 NC "No Connection.", 4 NC "No Connection.", 5 NC "No Connection.", 6 NC "No Connection.", 7 NC "No Connection.", 8 NC "No Connection.", 9 NC "No Connection.", 10 NC "No Connection.", 11 NC "No Connection.", 12 NC "No Connection.", 13 OE/~{RESET} (in) "Output Enable/Reset.", 14 NC "No Connection.", 15 ~{CE} (in) "Chip Enable Input.", 16 NC "No Connection.", 17 NC "No Connection.", 18 GND (power) "Ground.", 19 NC "No Connection.", 20 NC "No Connection.", 21 ~{CEO} (out) "Chip Enable Output, connects to the CE input of the next PROM in the chain.", 22 NC "No Connection.", 23 NC "No Connection.", 24 NC "No Connection.", 25 NC "No Connection.", 26 NC "No Connection.", 27 NC "No Connection.", 28 NC "No Connection.", 29 NC "No Connection.", 30 NC "No Connection.", 31 NC "No Connection.", 32 NC "No Connection.", 33 NC "No Connection.", 34 NC "No Connection.", 35 VPP (power) "Programming Voltage.  Do not leave Vpp floating!", 36 NC "No Connection.", 37 NC "No Connection.", 38 VCC (power) "Positive Supply.", 39 NC "No Connection.", 40 DATA (io) "Data Output.", 41 GND (power) "Ground.", 42 NC "No Connection.", 43 CLK (in) "Clock input for internal address counter.", 44 NC "No Connection."

## XC1704LPC44C
designator U?
XC1700L Series, One-Time Programmable Configuration 3.3V PROM, 44-Pin PLCC, 4-Megabit Density, Commercial Grade; Published: 17-Dec-2003; LatestRevisionDate: 16-Nov-2009; LatestRevisionNote: Updated to datasheet version 3.5, Jun-2008.; DatasheetVersion: ver3.5, Jun-2008; PackageVersion: ver1.2, Jun-2004; PackageReference: PC44; Publisher: Altium Limited; PackageDescription: 44-Pin Plastic Leaded Chip Carrier (PC44); Code_JEDEC: MS-047; Code_IPC: PLCC-44; ComponentLink1Description: XC1700E/EL/L Series Datasheet; ComponentLink1URL: http://www.xilinx.com/support/documentation/data_sheets/ds027.pdf; ComponentLink2Description: PC44 Package Drawing; ComponentLink2URL: http://www.xilinx.com/support/documentation/package_specs/pc44.pdf; ComponentLink3Description: Configuration PROM Documents; ComponentLink3URL: http://www.xilinx.com/support/documentation/configuration_proms.htm; ComponentLink4Description: Xilinx.com Home; ComponentLink4URL: http://www.xilinx.com
footprint PC44_N (Leaded Chip Carrier, 44-Leads, Body 16.6x16.6mm, Pitch 1.27mm, IPC Medium Density)
footprint PC44_L (Leaded Chip Carrier, 44-Leads, Body 16.6x16.6mm, Pitch 1.27mm, IPC High Density)
footprint PC44_M (Leaded Chip Carrier, 44-Leads, Body 16.6x16.6mm, Pitch 1.27mm, IPC Low Density)
pins: 1 NC "No Connection.", 2 DATA (io) "Data Output.", 3 GND (power) "Ground.", 4 NC "No Connection.", 5 CLK (in) "Clock input for internal address counter.", 6 NC "No Connection.", 7 NC "No Connection.", 8 NC "No Connection.", 9 NC "No Connection.", 10 NC "No Connection.", 11 NC "No Connection.", 12 NC "No Connection.", 13 NC "No Connection.", 14 NC "No Connection.", 15 NC "No Connection.", 16 NC "No Connection.", 17 NC "No Connection.", 18 NC "No Connection.", 19 OE/~{RESET} (in) "Output Enable/Reset.", 20 NC "No Connection.", 21 ~{CE} (in) "Chip Enable Input.", 22 NC "No Connection.", 23 NC "No Connection.", 24 GND (power) "Ground.", 25 NC "No Connection.", 26 NC "No Connection.", 27 ~{CEO} (out) "Chip Enable Output, connects to the CE input of the next PROM in the chain.", 28 NC "No Connection.", 29 NC "No Connection.", 30 NC "No Connection.", 31 NC "No Connection.", 32 NC "No Connection.", 33 NC "No Connection.", 34 NC "No Connection.", 35 NC "No Connection.", 36 NC "No Connection.", 37 NC "No Connection.", 38 NC "No Connection.", 39 NC "No Connection.", 40 NC "No Connection.", 41 VPP (power) "Programming Voltage.  Do not leave Vpp floating!", 42 NC "No Connection.", 43 NC "No Connection.", 44 VCC (power) "Positive Supply."

## XC1704LPC44I
designator U?
XC1700L Series, One-Time Programmable Configuration 3.3V PROM, 44-Pin PLCC, 4-Megabit Density, Industrial Grade; Published: 17-Dec-2003; LatestRevisionDate: 16-Nov-2009; LatestRevisionNote: Updated to datasheet version 3.5, Jun-2008.; DatasheetVersion: ver3.5, Jun-2008; PackageVersion: ver1.2, Jun-2004; PackageReference: PC44; Publisher: Altium Limited; PackageDescription: 44-Pin Plastic Leaded Chip Carrier (PC44); Code_JEDEC: MS-047; Code_IPC: PLCC-44; ComponentLink1Description: XC1700E/EL/L Series Datasheet; ComponentLink1URL: http://www.xilinx.com/support/documentation/data_sheets/ds027.pdf; ComponentLink2Description: PC44 Package Drawing; ComponentLink2URL: http://www.xilinx.com/support/documentation/package_specs/pc44.pdf; ComponentLink3Description: Configuration PROM Documents; ComponentLink3URL: http://www.xilinx.com/support/documentation/configuration_proms.htm; ComponentLink4Description: Xilinx.com Home; ComponentLink4URL: http://www.xilinx.com
footprint PC44_N (Leaded Chip Carrier, 44-Leads, Body 16.6x16.6mm, Pitch 1.27mm, IPC Medium Density)
footprint PC44_L (Leaded Chip Carrier, 44-Leads, Body 16.6x16.6mm, Pitch 1.27mm, IPC High Density)
footprint PC44_M (Leaded Chip Carrier, 44-Leads, Body 16.6x16.6mm, Pitch 1.27mm, IPC Low Density)
pins: 1 NC "No Connection.", 2 DATA (io) "Data Output.", 3 GND (power) "Ground.", 4 NC "No Connection.", 5 CLK (in) "Clock input for internal address counter.", 6 NC "No Connection.", 7 NC "No Connection.", 8 NC "No Connection.", 9 NC "No Connection.", 10 NC "No Connection.", 11 NC "No Connection.", 12 NC "No Connection.", 13 NC "No Connection.", 14 NC "No Connection.", 15 NC "No Connection.", 16 NC "No Connection.", 17 NC "No Connection.", 18 NC "No Connection.", 19 OE/~{RESET} (in) "Output Enable/Reset.", 20 NC "No Connection.", 21 ~{CE} (in) "Chip Enable Input.", 22 NC "No Connection.", 23 NC "No Connection.", 24 GND (power) "Ground.", 25 NC "No Connection.", 26 NC "No Connection.", 27 ~{CEO} (out) "Chip Enable Output, connects to the CE input of the next PROM in the chain.", 28 NC "No Connection.", 29 NC "No Connection.", 30 NC "No Connection.", 31 NC "No Connection.", 32 NC "No Connection.", 33 NC "No Connection.", 34 NC "No Connection.", 35 NC "No Connection.", 36 NC "No Connection.", 37 NC "No Connection.", 38 NC "No Connection.", 39 NC "No Connection.", 40 NC "No Connection.", 41 VPP (power) "Programming Voltage.  Do not leave Vpp floating!", 42 NC "No Connection.", 43 NC "No Connection.", 44 VCC (power) "Positive Supply."

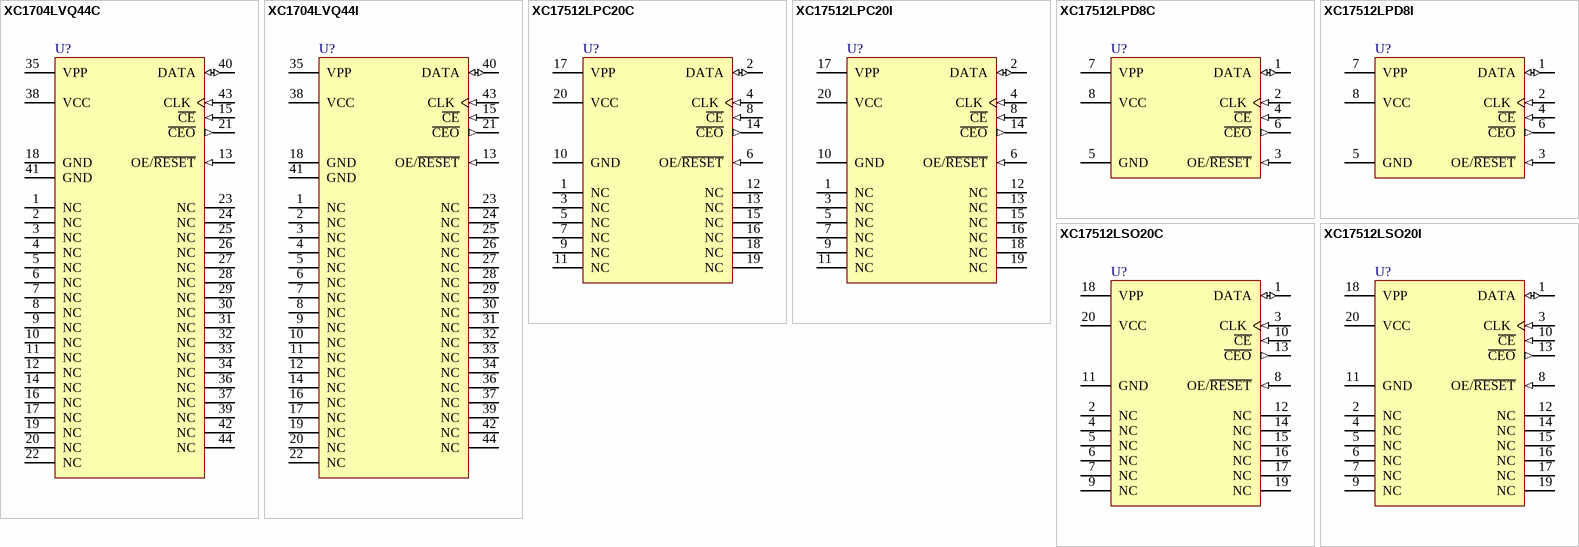
[diagram p1: symbols XC1704LVQ44C to XC17512LSO20I]

## XC1704LVQ44C
designator U?
XC1700L Series, One-Time Programmable Configuration 3.3V PROM, 44-Pin VQFP, 4-Megabit Density, Commercial Grade; Published: 17-Dec-2003; LatestRevisionDate: 16-Nov-2009; LatestRevisionNote: Updated to datasheet version 3.5, Jun-2008.; DatasheetVersion: ver3.5, Jun-2008; PackageVersion: ver1.2, Jun-2004; PackageReference: VQ44; Publisher: Altium Limited; PackageDescription: 44-Pin Very Thin Quad Flat Pack (VQ44); Code_JEDEC: MS-026-ACB; ComponentLink1Description: XC1700E/EL/L Series Datasheet; ComponentLink1URL: http://www.xilinx.com/support/documentation/data_sheets/ds027.pdf; ComponentLink2Description: VQ44 Package Drawing; ComponentLink2URL: http://www.xilinx.com/support/documentation/package_specs/vq44.pdf; ComponentLink3Description: Configuration PROM Documents; ComponentLink3URL: http://www.xilinx.com/support/documentation/configuration_proms.htm; ComponentLink4Description: Xilinx.com Home; ComponentLink4URL: http://www.xilinx.com
footprint VQ44_N (Thin QFP, 44-Leads, Body 10x10mm, Pitch 0.8mm, IPC Medium Density)
footprint VQ44_L (Thin QFP, 44-Leads, Body 10x10mm, Pitch 0.8mm, IPC High Density)
footprint VQ44_M (Thin QFP, 44-Leads, Body 10x10mm, Pitch 0.8mm, IPC Low Density)
pins: 1 NC "No Connection.", 2 NC "No Connection.", 3 NC "No Connection.", 4 NC "No Connection.", 5 NC "No Connection.", 6 NC "No Connection.", 7 NC "No Connection.", 8 NC "No Connection.", 9 NC "No Connection.", 10 NC "No Connection.", 11 NC "No Connection.", 12 NC "No Connection.", 13 OE/~{RESET} (in) "Output Enable/Reset.", 14 NC "No Connection.", 15 ~{CE} (in) "Chip Enable Input.", 16 NC "No Connection.", 17 NC "No Connection.", 18 GND (power) "Ground.", 19 NC "No Connection.", 20 NC "No Connection.", 21 ~{CEO} (out) "Chip Enable Output, connects to the CE input of the next PROM in the chain.", 22 NC "No Connection.", 23 NC "No Connection.", 24 NC "No Connection.", 25 NC "No Connection.", 26 NC "No Connection.", 27 NC "No Connection.", 28 NC "No Connection.", 29 NC "No Connection.", 30 NC "No Connection.", 31 NC "No Connection.", 32 NC "No Connection.", 33 NC "No Connection.", 34 NC "No Connection.", 35 VPP (power) "Programming Voltage.  Do not leave Vpp floating!", 36 NC "No Connection.", 37 NC "No Connection.", 38 VCC (power) "Positive Supply.", 39 NC "No Connection.", 40 DATA (io) "Data Output.", 41 GND (power) "Ground.", 42 NC "No Connection.", 43 CLK (in) "Clock input for internal address counter.", 44 NC "No Connection."

## XC1704LVQ44I
designator U?
XC1700L Series, One-Time Programmable Configuration 3.3V PROM, 44-Pin VQFP, 4-Megabit Density, Industrial Grade; Published: 17-Dec-2003; LatestRevisionDate: 16-Nov-2009; LatestRevisionNote: Updated to datasheet version 3.5, Jun-2008.; DatasheetVersion: ver3.5, Jun-2008; PackageVersion: ver1.2, Jun-2004; PackageReference: VQ44; Publisher: Altium Limited; PackageDescription: 44-Pin Very Thin Quad Flat Pack (VQ44); Code_JEDEC: MS-026-ACB; ComponentLink1Description: XC1700E/EL/L Series Datasheet; ComponentLink1URL: http://www.xilinx.com/support/documentation/data_sheets/ds027.pdf; ComponentLink2Description: VQ44 Package Drawing; ComponentLink2URL: http://www.xilinx.com/support/documentation/package_specs/vq44.pdf; ComponentLink3Description: Configuration PROM Documents; ComponentLink3URL: http://www.xilinx.com/support/documentation/configuration_proms.htm; ComponentLink4Description: Xilinx.com Home; ComponentLink4URL: http://www.xilinx.com
footprint VQ44_N (Thin QFP, 44-Leads, Body 10x10mm, Pitch 0.8mm, IPC Medium Density)
footprint VQ44_L (Thin QFP, 44-Leads, Body 10x10mm, Pitch 0.8mm, IPC High Density)
footprint VQ44_M (Thin QFP, 44-Leads, Body 10x10mm, Pitch 0.8mm, IPC Low Density)
pins: 1 NC "No Connection.", 2 NC "No Connection.", 3 NC "No Connection.", 4 NC "No Connection.", 5 NC "No Connection.", 6 NC "No Connection.", 7 NC "No Connection.", 8 NC "No Connection.", 9 NC "No Connection.", 10 NC "No Connection.", 11 NC "No Connection.", 12 NC "No Connection.", 13 OE/~{RESET} (in) "Output Enable/Reset.", 14 NC "No Connection.", 15 ~{CE} (in) "Chip Enable Input.", 16 NC "No Connection.", 17 NC "No Connection.", 18 GND (power) "Ground.", 19 NC "No Connection.", 20 NC "No Connection.", 21 ~{CEO} (out) "Chip Enable Output, connects to the CE input of the next PROM in the chain.", 22 NC "No Connection.", 23 NC "No Connection.", 24 NC "No Connection.", 25 NC "No Connection.", 26 NC "No Connection.", 27 NC "No Connection.", 28 NC "No Connection.", 29 NC "No Connection.", 30 NC "No Connection.", 31 NC "No Connection.", 32 NC "No Connection.", 33 NC "No Connection.", 34 NC "No Connection.", 35 VPP (power) "Programming Voltage.  Do not leave Vpp floating!", 36 NC "No Connection.", 37 NC "No Connection.", 38 VCC (power) "Positive Supply.", 39 NC "No Connection.", 40 DATA (io) "Data Output.", 41 GND (power) "Ground.", 42 NC "No Connection.", 43 CLK (in) "Clock input for internal address counter.", 44 NC "No Connection."